# Altium footprint library Crystals and Oscillators.PcbLib: 1 footprints
Each footprint in its own frame and in the unit in brackets; x right, y up, seen from the top. Pads: shape width x height; smd on the part's side, far side on the other; paste and mask are expansions set on the pad; w line width, h text height; cw(c..) or ccw(c..) is an arc to the next point about the centre after c.
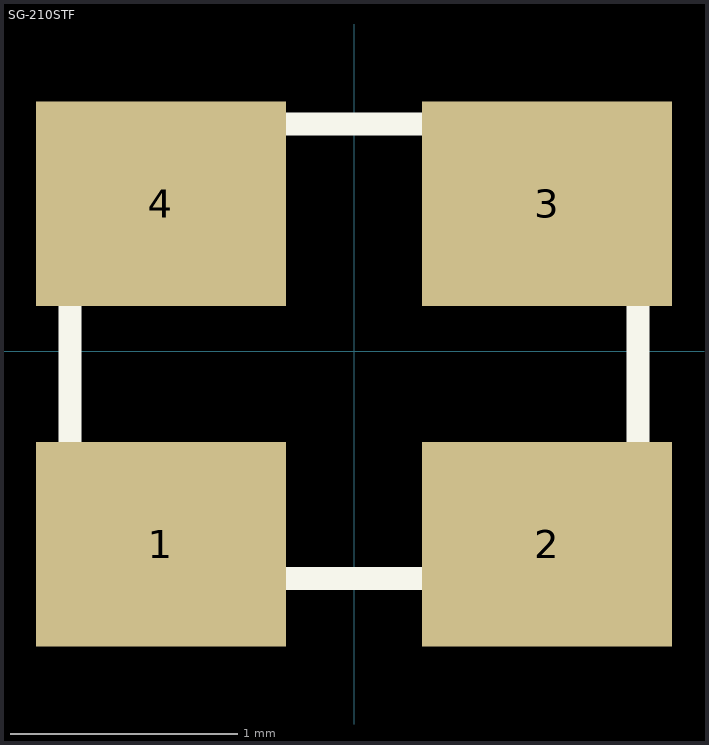
[diagram p0: the footprint, top view; thin cyan lines are the x and y axes]

## SG-210STF [mm]
pads (4):
  rect 1.1x0.9 smd: 1(-0.85,-0.85) 2(0.85,-0.85) 3(0.85,0.65) 4(-0.85,0.65)
Top Overlay:
  lines w0.1: -1.25,-0.5 -1.25,0.25 ; -0.5,-1 0.5,-1 ; -0.5,1 0.5,1 ; 1.25,-0.5 1.25,0.25
Top Designator:
Top Value:
3D body "SG210STF33.SLDPRT": height 0.75, standoff -0.05, extent -1.25,-1 1.25,1